# EAGLE library part MIC5891 (library lightuino3.lbrlightuino3.1)
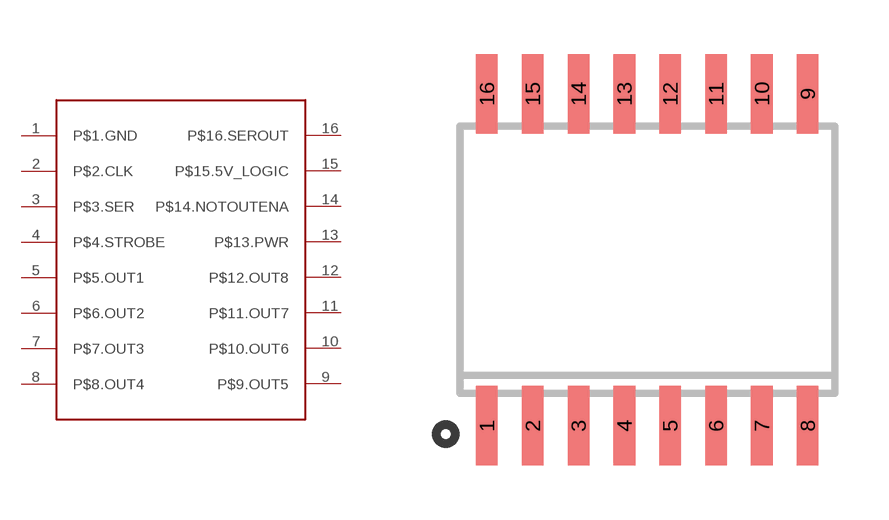
[diagram p11: symbol with the pads of SO16W; footprint SO16W]

Designator prefix -

## MIC5891  [SO16W]
1  P$1.GND
2  P$2.CLK
3  P$3.SER
4  P$4.STROBE
5  P$5.OUT1
6  P$6.OUT2
7  P$7.OUT3
8  P$8.OUT4
9  P$9.OUT5
10  P$10.OUT6
11  P$11.OUT7
12  P$12.OUT8
13  P$13.PWR
14  P$14.NOTOUTENA
15  P$15.5V_LOGIC
16  P$16.SEROUT

## Footprint SO16W (pad centres in mm)
SMALL OUTLINE INTEGRATED CIRCUIT wide body 7.5 mm/JEDEC MS-013AA
smd 0.6 x 2.2: 1 -4.445,-4.6; 2 -3.175,-4.6; 3 -1.905,-4.6; 4 -0.635,-4.6; 5 0.635,-4.6; 6 1.905,-4.6; 7 3.175,-4.6; 8 4.445,-4.6; 9 4.445,4.6; 10 3.175,4.6; 11 1.905,4.6; 12 0.635,4.6; 13 -0.635,4.6; 14 -1.905,4.6; 15 -3.175,4.6; 16 -4.445,4.6